# EAGLE library part SOIC_20_UNI (library custom)
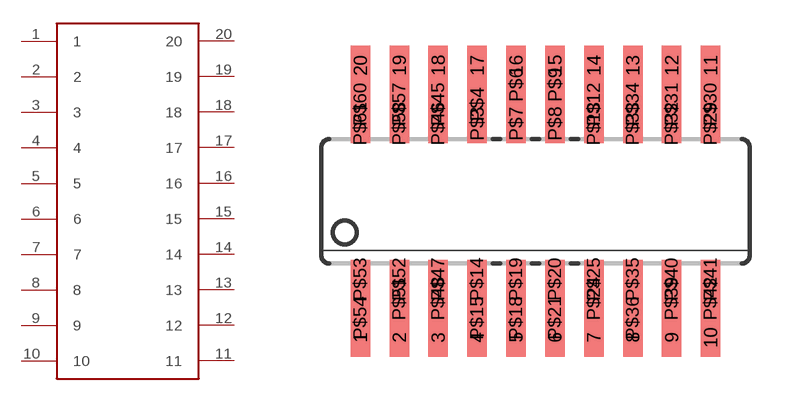
[diagram p1: symbol with the pads of SOIC_20_UNI; footprint SOIC_20_UNI]

Designator prefix -

## SOIC_20_UNI  [SOIC_20_UNI]
1  1
2  2
3  3
4  4
5  5
6  6
7  7
8  8
9  9
10  10
11  11
12  12
13  13
14  14
15  15
16  16
17  17
18  18
19  19
20  20

## Footprint SOIC_20_UNI (pad centres in mm)
Small Outline Package
smd 0.635 x 1.27: 1 -5.715,-4.445; 2 -4.445,-4.445; 3 -3.175,-4.445; 4 -1.905,-4.445; 5 -0.635,-4.445; 6 0.635,-4.445; 7 1.905,-4.445; 8 3.175,-4.445; 9 4.445,-4.445; 10 5.715,-4.445; 11 5.715,4.445; 12 4.445,4.445; 13 3.175,4.445; 14 1.905,4.445; 15 0.635,4.445; 16 -0.635,4.445; 17 -1.905,4.445; 18 -3.175,4.445; 19 -4.445,4.445; 20 -5.715,4.445; P$3 -1.905,2.54; P$4 -1.905,3.175; P$6 -0.635,3.81; P$7 -0.635,2.54; P$8 0.635,2.54; P$9 0.635,3.81; P$12 1.905,3.175; P$13 1.905,2.54; P$14 -1.905,-2.54; P$15 -1.905,-3.81; P$18 -0.635,-3.81; P$19 -0.635,-2.54; P$20 0.635,-2.54; P$21 0.635,-3.81; P$24 1.905,-3.175; P$25 1.905,-2.54; P$29 5.715,2.54; P$30 5.715,3.175; P$31 4.445,3.175; P$32 4.445,2.54; P$33 3.175,2.54; P$34 3.175,3.175; P$35 3.175,-2.54; P$36 3.175,-3.81; P$39 4.445,-3.175; P$40 4.445,-2.54; P$41 5.715,-2.54; P$42 5.715,-3.175; P$45 -3.175,3.175; P$46 -3.175,2.54; P$47 -3.175,-2.54; P$48 -3.175,-3.175; P$51 -4.445,-3.175; P$52 -4.445,-2.54; P$53 -5.715,-2.54; P$54 -5.715,-3.81; P$57 -4.445,3.175; P$58 -4.445,2.54; P$60 -5.715,3.175; P$61 -5.715,2.54